# EAGLE library part EL2045CSZ (library Intersil_By_element14_Batch_1)
Low-Power 100MHz Gain-of-2 Stable Operational Amplifier
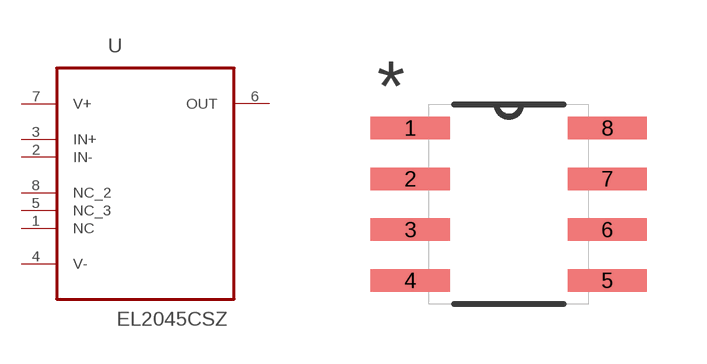
[diagram p52: symbol with the pads of SOIC127P600X175-8N; footprint SOIC127P600X175-8N]

Designator prefix U

## EL2045CSZ (MPN: EL2045CSZ; OC_FARNELL: 1562026; OC_NEWARK: 57K3121; PACKAGE: SOIC-8; SUPPLIER: INTERSIL)  [SOIC127P600X175-8N]
1  NC  nc
2  IN-  in
3  IN+  in
4  V-  pwr
5  NC_3  nc
6  OUT  out
7  V+  pwr
8  NC_2  nc

## Footprint SOIC127P600X175-8N (pad centres in mm)
smd 1.981 x 0.559: 1 -2.464,1.905; 2 -2.464,0.635; 3 -2.464,-0.635; 4 -2.464,-1.905; 5 2.464,-1.905; 6 2.464,-0.635; 7 2.464,0.635; 8 2.464,1.905